# Altium schematic symbol library conn.SchLib: 12 symbols
Pins are listed as number, name and electrical type; pins without a type are passive.

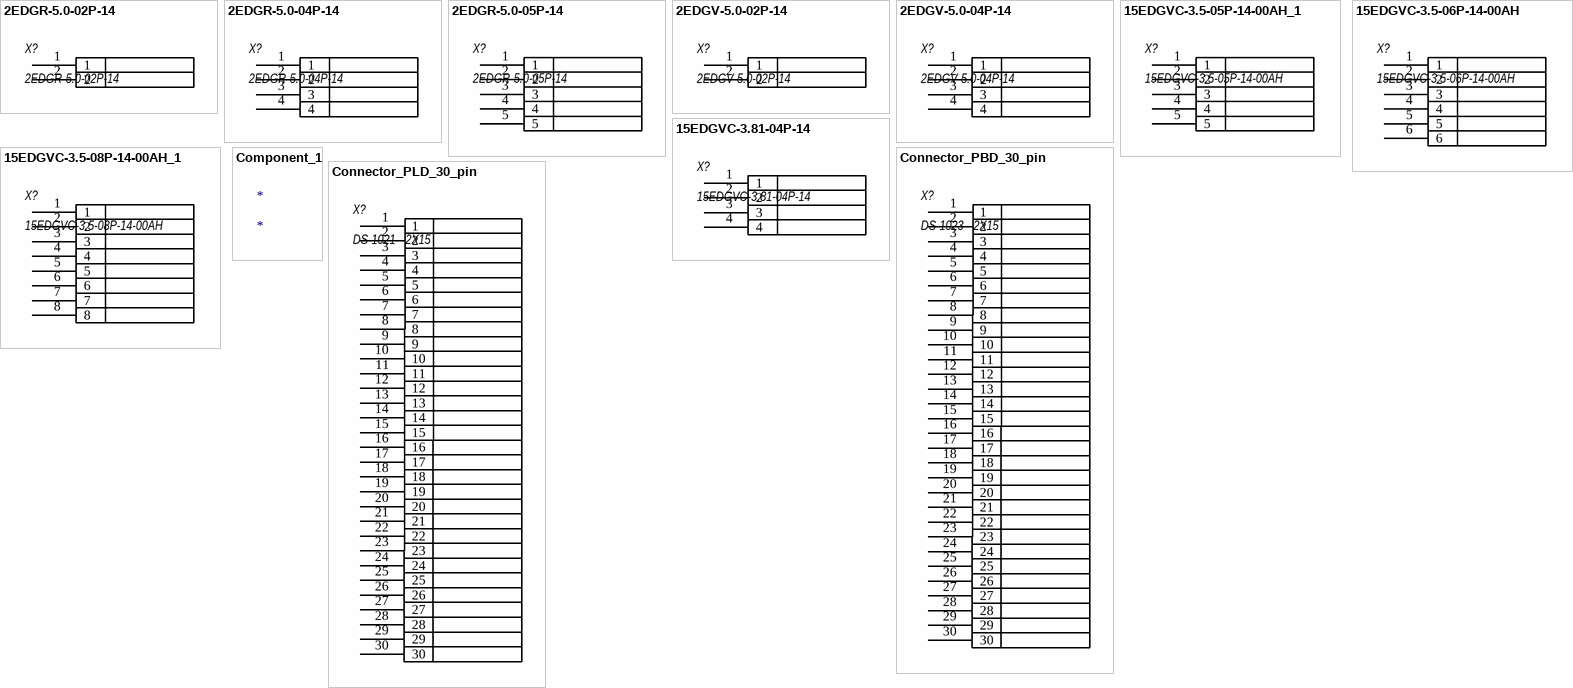
[diagram p0: symbols 2EDGR-5.0-02P-14 to Connector_PLD_30_pin]

## 2EDGR-5.0-02P-14
designator X?
Разъем, 2 контакта; Производитель: Degson Electronics; Артикул: 2EDGR-5.0-02P-14; Вид монтажа: *; Диэлектрик: *; Корпус: *; Название: *; Напряжение: *; Номинал: *; Примечание: *; Стоимость (USD): *; Строка для документации: *; Температурный диапазон: *; Тип элемента: Разъем; Точность: *
footprint 5 1x2 r
pins: 1, 2

## 2EDGR-5.0-04P-14
designator X?
Разъем, 4 контакта; Производитель: Degson Electronics; Артикул: 2EDGR-5.0-04P-14; Вид монтажа: *; Диэлектрик: *; Корпус: *; Название: *; Напряжение: *; Номинал: *; Примечание: *; Стоимость (USD): *; Строка для документации: *; Температурный диапазон: *; Тип элемента: Разъем; Точность: *
footprint 5 1x4 r
pins: 1, 2, 3, 4

## 2EDGR-5.0-05P-14
designator X?
Разъем, 4 контакта; Производитель: Degson Electronics; Артикул: 2EDGR-5.0-05P-14; Вид монтажа: *; Диэлектрик: *; Корпус: *; Название: *; Напряжение: *; Номинал: *; Примечание: *; Стоимость (USD): *; Строка для документации: *; Температурный диапазон: *; Тип элемента: Разъем; Точность: *
footprint 5 1x5 r
pins: 1, 2, 3, 4, 5

## 2EDGV-5.0-02P-14
designator X?
Разъем, 2 контакта; Производитель: Degson Electronics; Артикул: 2EDGV-5.0-02P-14; Вид монтажа: *; Диэлектрик: *; Корпус: *; Название: *; Напряжение: *; Номинал: *; Примечание: *; Стоимость (USD): *; Строка для документации: *; Температурный диапазон: *; Тип элемента: Разъем; Точность: *
footprint 5 1x2
pins: 1, 2

## 2EDGV-5.0-04P-14
designator X?
Разъем, 4 контакта; Производитель: Degson Electronics; Артикул: 2EDGV-5.0-04P-14; Вид монтажа: *; Диэлектрик: *; Корпус: *; Название: *; Напряжение: *; Номинал: *; Примечание: *; Стоимость (USD): *; Строка для документации: *; Температурный диапазон: *; Тип элемента: Разъем; Точность: *
footprint 5 1x4
pins: 1, 2, 3, 4

## 15EDGVC-3.5-05P-14-00AH_1
designator X?, comment 15EDGVC-3.5-05P-14-00AH
Разъем, 5 контактов; Производитель: Degson Electronics; Артикул: 15EDGVC-3.5-05P-14-00AH; Вид монтажа: *; Диэлектрик: *; Корпус: *; Название: *; Напряжение: *; Номинал: *; Примечание: *; Стоимость (USD): *; Строка для документации: *; Температурный диапазон: *; Тип элемента: Разъем; Точность: *
footprint 3.5 1x5
pins: 1, 2, 3, 4, 5

## 15EDGVC-3.5-06P-14-00AH
designator X?
Разъем, 6 контактов; Производитель: Degson Electronics; Артикул: 15EDGVC-3.5-06P-14-00AH; Вид монтажа: *; Диэлектрик: *; Корпус: *; Название: *; Напряжение: *; Номинал: *; Примечание: *; Стоимость (USD): *; Строка для документации: *; Температурный диапазон: *; Тип элемента: Разъем; Точность: *
footprint 3.5 1x6
pins: 1, 2, 3, 4, 5, 6

## 15EDGVC-3.5-08P-14-00AH_1
designator X?, comment 15EDGVC-3.5-08P-14-00AH
Разъем, 8 контактов; Производитель: Degson Electronics; Артикул: 15EDGVC-3.5-08P-14-00AH; Вид монтажа: *; Диэлектрик: *; Корпус: *; Название: *; Напряжение: *; Номинал: *; Примечание: *; Стоимость (USD): *; Строка для документации: *; Температурный диапазон: *; Тип элемента: Разъем; Точность: *
footprint 3.5 1x8
pins: 1, 2, 3, 4, 5, 6, 7, 8

## 15EDGVC-3.81-04P-14
designator X?
Разъем, 4 контакта; Производитель: Degson Electronics; Артикул: 15EDGVC-3.81-04P-14; Вид монтажа: *; Диэлектрик: *; Корпус: *; Название: *; Напряжение: *; Номинал: *; Примечание: *; Стоимость (USD): *; Строка для документации: *; Температурный диапазон: *; Тип элемента: Разъем; Точность: *
footprint 3.81 1x4
pins: 1, 2, 3, 4

## Component_1
designator *

## Connector_PBD_30_pin
designator X?, comment DS-1023 - 2X15
Разъем, 30 контактов; Название: PBD-30; Артикул: DS-1023 - 2X15; Вид монтажа: *; Диэлектрик: *; Корпус: *; Напряжение: *; Номинал: *; Примечание: *; Производитель: *; Стоимость (USD): *; Строка для документации: *; Температурный диапазон: *; Тип элемента: Разъем; Точность: *
footprint 2.54_30P_2X15_PBD (30 pin, 2x15, 2.54 mm pitch Male Box Header)
pins: 1, 2, 3, 4, 5, 6, 7, 8, 9, 10, 11, 12, 13, 14, 15, 16, 17, 18, 19, 20, 21, 22, 23, 24, 25, 26, 27, 28, 29, 30

## Connector_PLD_30_pin
designator X?, comment DS-1021 - 2X15
Разъем, 30 контактов; Название: PLD-30; Артикул: DS-1021 - 2X15; Вид монтажа: *; Диэлектрик: *; Корпус: *; Напряжение: *; Номинал: *; Примечание: *; Производитель: *; Стоимость (USD): *; Строка для документации: *; Температурный диапазон: *; Тип элемента: Разъем; Точность: *
footprint 2.54_30P_2X15_PLD (30 pin, 2x15, 2.54 mm pitch Male Box Header)
pins: 1, 2, 3, 4, 5, 6, 7, 8, 9, 10, 11, 12, 13, 14, 15, 16, 17, 18, 19, 20, 21, 22, 23, 24, 25, 26, 27, 28, 29, 30